# EAGLE library part RELAY-HLS-14F3L-DC12V-C (library Discrete)
315990002
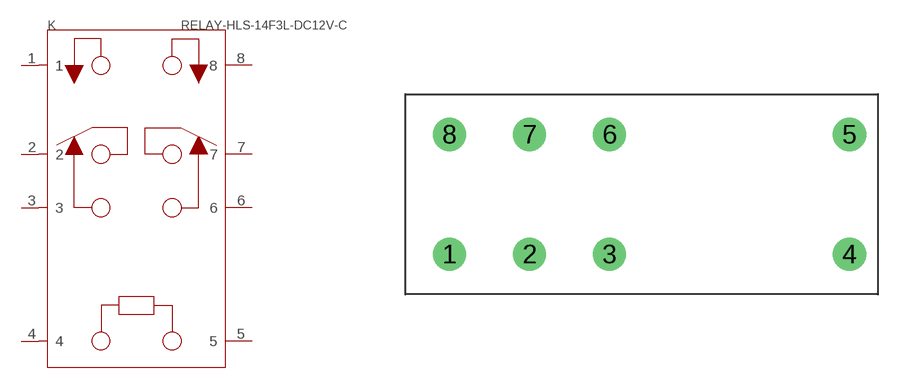
[diagram p8: symbol with the pads of 8P-29.2*12.4*20.4MM; footprint 8P-29.2*12.4*20.4MM]

Designator prefix K

## RELAY-HLS-14F3L-DC12V-C-HLS-14F3L-DC12V-C  [8P-29.2*12.4*20.4MM]
1  1
2  2
3  3
4  4
5  5
6  6
7  7
8  8

## Footprint 8P-29.2*12.4*20.4MM (pad centres in mm)
drill 1.3 pad 2.1: 1 -11.684,-3.81; 2 -6.604,-3.81; 3 -1.524,-3.81; 4 13.716,-3.81; 5 13.716,3.79; 6 -1.524,3.79; 7 -6.604,3.79; 8 -11.684,3.79